# EAGLE library part USB3.0-A (library Public)
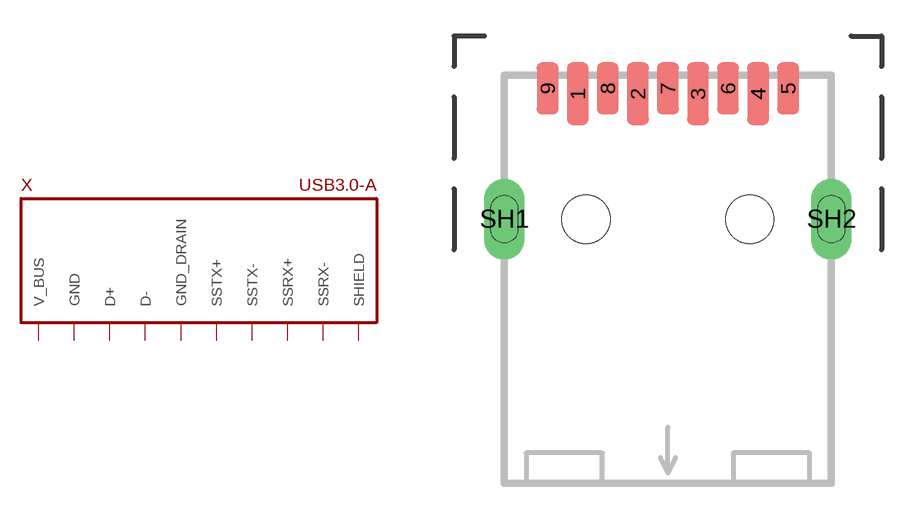
[diagram p122: symbol with the pads of USB-A_WUERTH_692122030100; footprint USB-A_WUERTH_692122030100]

Designator prefix X

## USB3.0-A  [USB-A_WUERTH_692122030100]
1  V_BUS
2  D-
3  D+
4  GND
5  SSRX-
6  SSRX+
7  GND_DRAIN
8  SSTX-
9  SSTX+
SH1  SHIELD

## Footprint USB-A_WUERTH_692122030100 (pad centres in mm)
smd 0.9 x 2.6: 1 -3.75,5.22; 2 -1.25,5.22; 3 1.25,5.22; 4 3.75,5.22
smd 0.9 x 2.15: 5 5,5.445; 6 2.5,5.445; 7 0,5.445; 8 -2.5,5.445; 9 -5,5.445
drill 1.12 long: SH1 -6.8,0; SH2 6.8,0
hole 2 at -3.4,0
hole 2 at 3.4,0